# Altium footprint library 二极管.PcbLib: 21 footprints (part 1 of 2)
Each footprint in its own frame and in the unit in brackets; x right, y up, seen from the top. Pads: shape width x height; smd on the part's side, far side on the other; paste and mask are expansions set on the pad; w line width, h text height; cw(c..) or ccw(c..) is an arc to the next point about the centre after c.
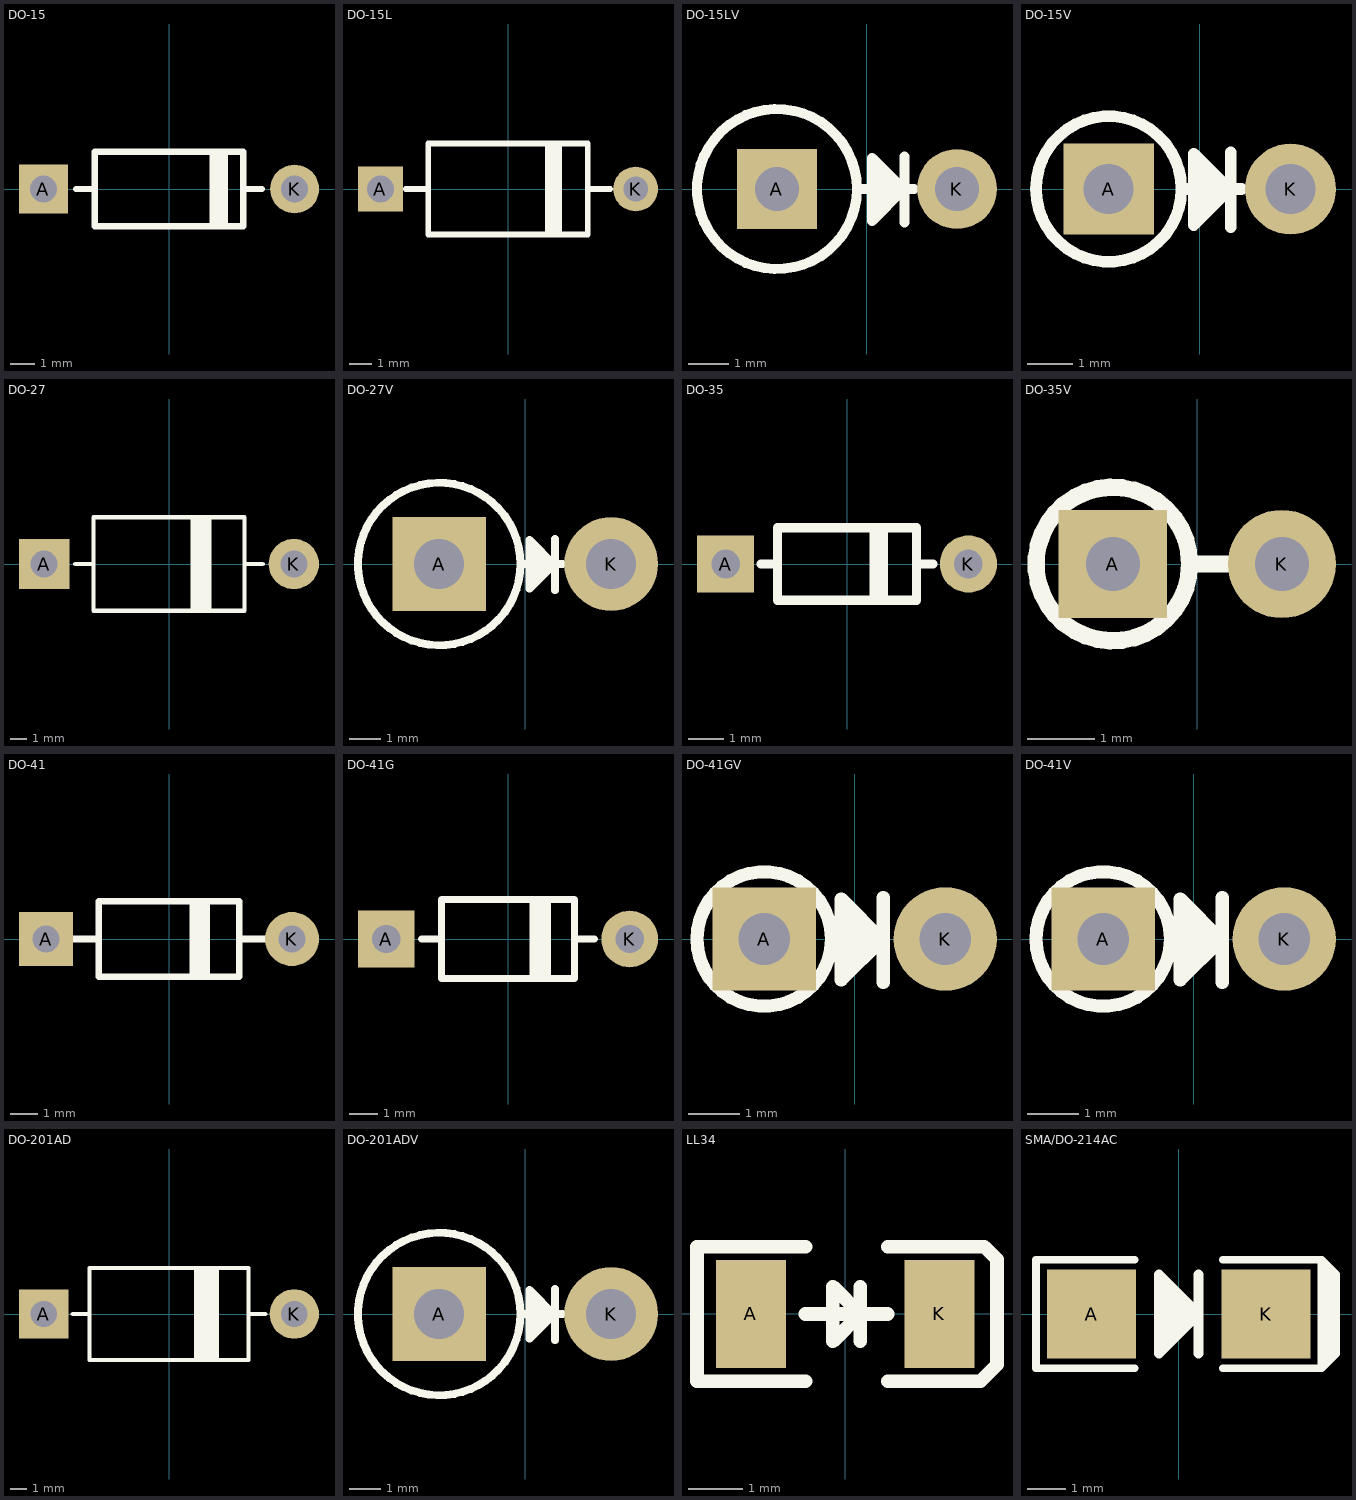
[diagram p0: the footprints below, top view; thin cyan lines are the x and y axes]

## DO-15 [mm]
pads (2):
  rect 2x2 hole 1.1: A(-5.15,0)
  round 2 hole 1.1: K(5.15,0)
Top Overlay:
  lines w0.254: -3.81,0 -3.048,0 ; 1.778,-1.524 1.778,1.524 ; 2.032,-1.524 2.032,1.524 ; 2.286,-1.524 2.286,1.524 ; 3.048,0 3.81,0 ; -3.048,-1.524 -3.048,1.524 3.048,1.524 3.048,-1.524 -3.048,-1.524
3D body "DO-15.STEP": height 3.35, standoff -3.45, extent -5.55,-1.651 5.55,1.651

## DO-15L [mm]
pads (2):
  rect 2x2 hole 1.2: A(-5.7,0)
  round 2 hole 1.1: K(5.7,0)
Top Overlay:
  lines w0.254: -4.572,0 -3.556,0 ; 1.778,-2.032 1.778,2.032 ; 2.032,-2.032 2.032,2.032 ; 2.286,-2.032 2.286,2.032 ; 3.556,0 4.572,0 ; -3.556,-2.032 3.556,-2.032 3.556,2.032 -3.556,2.032 -3.556,-2.032
3D body "DO-15L.STEP": height 4.05, standoff -3.45, extent -6.1,-2.001 6.1,2.001

## DO-15LV [mm]
pads (2):
  rect 2x2 hole 1.1: A(-2.25,0)
  round 2 hole 1.1: K(2.25,0)
Top Overlay:
  circle w0.254: c-2.25,0 r2
  lines w0.254: -0.142,0 1.179,0 ; 0.29,0.559 0.315,-0.432 0.798,0 0.544,0.254 0.544,0 0.544,-0.254 ; 0.9,-0.02 0.127,-0.792 0.127,0.775 0.94,-0.038 ; 0.94,-0.841 0.94,0.805
3D body "DO-15LV.STEP": height 9.45, standoff -3.45, extent -4.212,-2.001 2.689,2.001

## DO-15V [mm]
pads (2):
  rect 2x2 hole 1.1: A(-2,0)
  round 2 hole 1.1: K(2,0)
Top Overlay:
  circle w0.254: c-2,0 r1.6
  lines w0.254: -0.4,0 0.921,0 ; 0.032,0.559 0.057,-0.432 0.54,0 0.286,0.254 0.286,0 0.286,-0.254 ; 0.642,-0.02 -0.131,-0.792 -0.131,0.775 0.682,-0.038 ; 0.682,-0.841 0.682,0.805
3D body "DO-15V.STEP": height 8.35, standoff -3.45, extent -3.629,-1.651 2.423,1.651

## DO-27 [mm]
pads (2):
  rect 3x3 hole 1.6: A(-7.45,0)
  round 3 hole 1.6: K(7.45,0)
Top Overlay:
  rectangle: 1.27,-2.794 2.54,2.794
  lines w0.254: -5.588,0 -4.572,0 ; 4.572,0 5.588,0 ; -4.5,-2.794 -4.5,2.794 4.5,2.794 4.5,-2.794 -4.5,-2.794
3D body "DO-27.STEP": height 5.25, standoff -3.45, extent -8.057,-2.661 8.143,2.54

## DO-27V [mm]
pads (2):
  rect 3x3 hole 1.6: A(-2.75,0)
  round 3 hole 1.6: K(2.75,0)
Top Overlay:
  circle w0.254: c-2.75,0 r2.6
  lines w0.254: -0.134,0 0.948,0 ; 0.298,0.559 0.323,-0.432 0.806,0 ; 0.552,-0.254 0.552,0 0.552,0.254 0.806,0 ; 0.908,-0.02 0.135,-0.792 0.135,0.775 0.948,-0.038 ; 0.948,-0.841 0.948,0.805 ; 1.187,0 0.806,0
3D body "DO-27V.STEP": height 11.7, standoff -3.45, extent -5.347,-2.534 3.404,2.667

## DO-35 [mm]
pads (2):
  rect 1.6x1.6 hole 0.8: A(-3.4,0)
  round 1.6 hole 0.8: K(3.4,0)
Top Overlay:
  rectangle: 0.635,-1.016 1.143,1.016
  lines w0.254: -2.413,0 -1.95,0 ; 1.95,0 2.413,0 ; -1.95,-1.016 -1.95,1.016 1.95,1.016 1.95,-1.016 -1.95,-1.016
3D body "DO-35.STEP": height 1.85, standoff -3.45, extent -3.621,-0.889 3.679,0.913

## DO-35V [mm]
pads (2):
  rect 1.6x1.6 hole 0.8: A(-1.25,0)
  round 1.6 hole 0.8: K(1.25,0)
Top Overlay:
  circle w0.254: c-1.25,0 r1.136
  lines w0.254: -0.114,0 0.528,0
3D body "DO-35V.STEP": height 5.15, standoff -3.5, extent -2.06,-0.913 1.592,0.889

## DO-41 [mm]
pads (2):
  rect 2x2 hole 1: A(-4.55,0)
  round 2 hole 1: K(4.55,0)
Top Overlay:
  rectangle: 0.762,-1.397 1.524,1.397
  lines w0.254: -3.556,0 -2.6,0 ; 2.6,0 3.556,0 ; -2.6,-1.397 -2.6,1.397 2.6,1.397 2.6,-1.397 -2.6,-1.397
3D body "DO-41.STEP": height 2.65, standoff -3.45, extent -4.928,-1.332 4.972,1.27

## DO-41G [mm]
pads (2):
  rect 2x2 hole 1: A(-4.3,0)
  round 2 hole 1: K(4.3,0)
Top Overlay:
  rectangle: 0.762,-1.397 1.524,1.397
  lines w0.254: -3.048,0 -2.346,0 ; 2.346,0 3.048,0 ; -2.35,-1.397 -2.35,1.397 2.35,1.397 2.35,-1.397 -2.35,-1.397
3D body "DO-41G.STEP": height 2.55, standoff -3.45, extent -4.809,-1.232 4.591,1.27

## DO-41GV [mm]
pads (2):
  rect 2x2 hole 1: A(-1.75,0)
  round 2 hole 1: K(1.75,0)
Top Overlay:
  circle w0.254: c-1.75,0 r1.3
  lines w0.254: -0.099,0.559 -0.074,-0.432 0.409,0 0.155,0.254 0.155,0 0.155,-0.254 ; 0.511,-0.02 -0.262,-0.792 -0.262,0.775 0.551,-0.038 ; 0.551,-0.841 0.551,0.805
3D body "DO-41GV.STEP": height 6.4, standoff -3.5, extent -3.02,-1.27 2.131,1.232

## DO-41V [mm]
pads (2):
  rect 2x2 hole 1: A(-1.75,0)
  round 2 hole 1: K(1.75,0)
Top Overlay:
  circle w0.254: c-1.75,0 r1.3
  lines w0.254: -0.099,0.559 -0.074,-0.432 0.409,0 0.155,0.254 0.155,0 0.155,-0.254 ; 0.511,-0.02 -0.262,-0.792 -0.262,0.775 0.551,-0.038 ; 0.551,-0.841 0.551,0.805
3D body "DO-41V.STEP": height 6.9, standoff -3.5, extent -3.081,-1.332 2.121,1.27

## DO-201AD [mm]
pads (2):
  rect 3x3 hole 1.6: A(-7.6,0)
  round 3 hole 1.6: K(7.6,0)
Top Overlay:
  rectangle: 1.524,-2.794 3.048,2.794
  lines w0.254: -5.842,0 -4.826,0 ; 4.826,0 5.842,0 ; -4.826,-2.794 -4.826,2.794 4.826,2.794 4.826,-2.794 -4.826,-2.794
3D body "DO-201AD.STEP": height 5.25, standoff -3.45, extent -8.23,-2.54 8.27,2.661

## DO-201ADV [mm]
pads (2):
  rect 3x3 hole 1.6: A(-2.75,0)
  round 3 hole 1.6: K(2.75,0)
Top Overlay:
  circle w0.254: c-2.75,0 r2.6
  lines w0.254: -0.134,0 0.948,0 ; 0.298,0.559 0.323,-0.432 0.806,0 ; 0.552,-0.254 0.552,0 0.552,0.254 0.806,0 ; 0.908,-0.02 0.135,-0.792 0.135,0.775 0.948,-0.038 ; 0.948,-0.841 0.948,0.805 ; 1.187,0 0.806,0
3D body "DO-201ADV.STEP": height 12, standoff -3.45, extent -5.347,-2.667 3.404,2.534

## LL34 [mm] "玻封二极管"
pads (2):
  rect 1.3x2 smd: A(-1.75,0) K(1.75,0)
Top Overlay:
  lines w0.254: -0.734,-1.25 -2.75,-1.25 -2.75,1.25 -0.734,1.25 ; -0.734,0 0.79,0 ; 0.282,-0.508 0.282,0.508 ; 0.79,-1.25 2.516,-1.25 ; 0.79,1.25 2.588,1.25 ; 1.806,-1.25 2.516,-1.25 ; 2.314,1.25 2.588,1.25 ; 2.516,-1.25 2.822,-0.944 ; 2.516,-1.25 2.822,-0.944 ; 2.588,1.25 2.822,1.016 2.822,-0.944 ; -0.226,-0.508 -0.226,0.508 0.282,0 -0.226,-0.508
3D body "SOD-80.STEP": height 1.5, standoff 0, extent -1.849,-0.75 1.651,0.75

## SMA/DO-214AC [mm] "塑封二极管"
pads (2):
  rect 2.3x2.3 smd: A(-2.25,0) K(2.25,0)
Top Overlay:
  region: -0.508,1.016 0.508,0 -0.508,-1.016
  region: 3.683,1.397 3.683,-1.397 4.055,-1.025 4.055,1.025
  lines w0.2: -1.143,-1.397 -3.683,-1.397 -3.683,1.397 -1.143,1.397 ; 1.143,-1.397 3.683,-1.397 ; 1.143,1.397 3.683,1.397 ; 3.683,-1.397 3.861,-1.219 4.055,-1.025 4.055,1.025 3.861,1.219 3.683,1.397 ; 3.683,-1.397 3.683,1.397
  lines w0.254: 0,0.508 0.508,0 ; 0.508,-1.016 0.508,0 ; 0.508,1.016 0.508,0 ; 0.508,0 -0.508,-1.016 -0.508,1.016 0.508,0
3D body "DO-214AC.STEP": height 2.4, standoff 0, extent -2.3,-1.35 2.3,1.35